# Altium footprint library PcbLib1.PcbLib: 1 footprints
Each footprint in its own frame and in the unit in brackets; x right, y up, seen from the top. Pads: shape width x height; smd on the part's side, far side on the other; paste and mask are expansions set on the pad; w line width, h text height; cw(c..) or ccw(c..) is an arc to the next point about the centre after c.
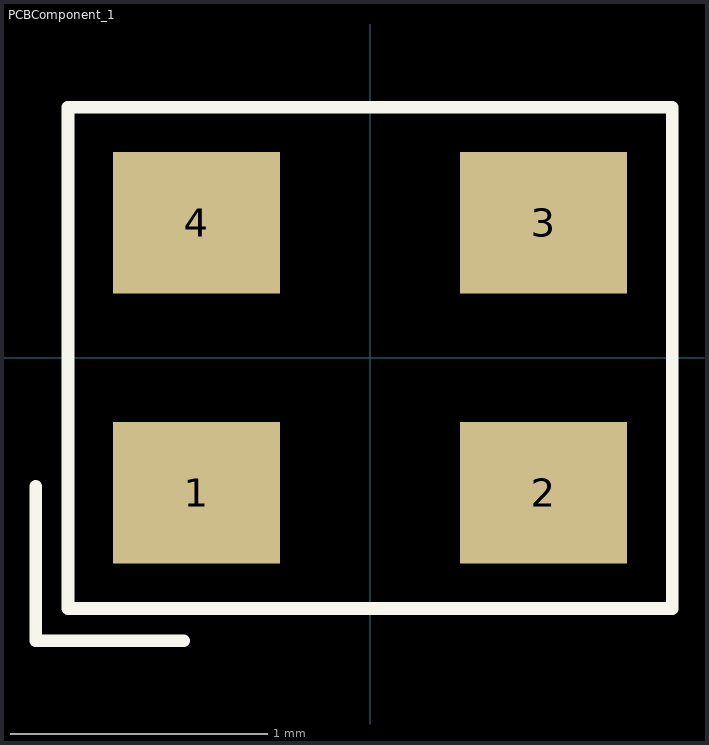
[diagram p0: the footprint, top view; thin cyan lines are the x and y axes]

## PCBComponent_1 [mm]
pads (4):
  rect 0.65x0.55 smd: 1(-0.675,-0.525) 2(0.675,-0.525) 3(0.675,0.525) 4(-0.675,0.525)
Top Overlay:
  lines w0.05: -1.3,-0.5 -1.3,-1.1 ; -0.725,-1.1 -1.3,-1.1 ; -1.3,-1.1 -1.3,-1.1 ; -1.175,-0.975 1.175,-0.975 1.175,0.975 -1.175,0.975 -1.175,-0.975